# Altium footprint library Vicor_MaxiMiniMicro_DCDC.PcbLib: 3 footprints
Each footprint in its own frame and in the unit in brackets; x right, y up, seen from the top. Pads: shape width x height; smd on the part's side, far side on the other; paste and mask are expansions set on the pad; w line width, h text height; cw(c..) or ccw(c..) is an arc to the next point about the centre after c.
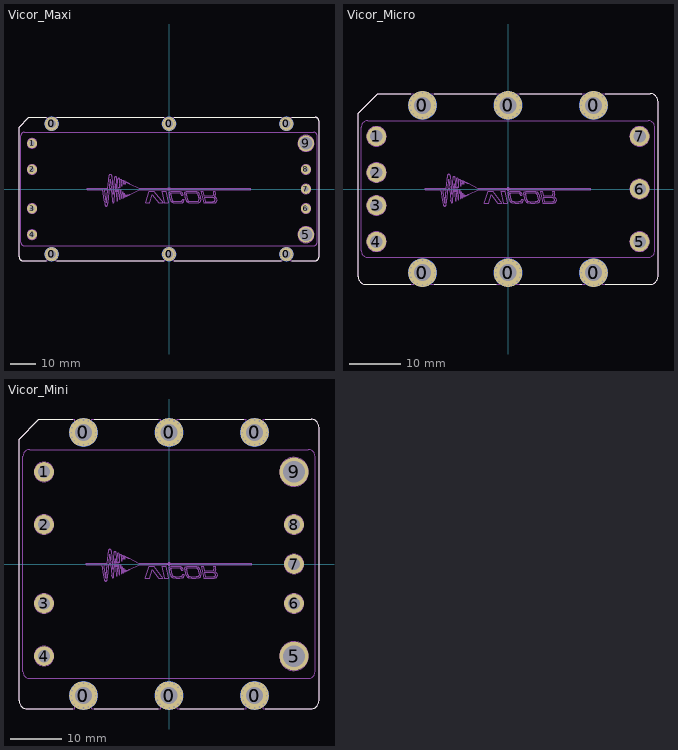
[diagram p0: the footprints below, top view; thin cyan lines are the x and y axes]

## Vicor_Maxi [mm]
pads (27):
  round 0 hole 3.3 unplated: 0(-45.72,-25.4) 0(-45.72,25.4) 0(0,-25.4) 0(0,25.4) 0(45.72,-25.4) 0(45.72,25.4)
  round 5.5 smd: 0(-45.72,-25.4) 0(-45.72,25.4) 0(0,-25.4) 0(0,25.4) 0(45.72,-25.4) 0(45.72,25.4)
  round 5.5 smd far side: 0(-45.72,-25.4) 0(-45.72,25.4) 0(0,-25.4) 0(0,25.4) 0(45.72,-25.4) 0(45.72,25.4)
  round 3.81 hole 2.083: 1(-53.34,17.78) 2(-53.34,7.62) 3(-53.34,-7.62) 4(-53.34,-17.78) 6(53.34,-7.62) 7(53.34,0) 8(53.34,7.62)
  round 6.35 hole 4.928: 5(53.34,-17.78) 9(53.34,17.78)
via 47.455,-23.75 diameter 0.7 hole 0.3
via 43.505,-24.475 diameter 0.7 hole 0.3
via 43.505,-26.325 diameter 0.7 hole 0.3
via 44.705,-27.575 diameter 0.7 hole 0.3
via 46.68,-27.6 diameter 0.7 hole 0.3
via 47.955,-26.275 diameter 0.7 hole 0.3
via 48.105,-25.425 diameter 0.7 hole 0.3
via 47.955,-24.525 diameter 0.7 hole 0.3
via 46.68,-23.2 diameter 0.7 hole 0.3
via 44.83,-23.175 diameter 0.7 hole 0.3
via 45.73,-23 diameter 0.7 hole 0.3
via 43.33,-25.425 diameter 0.7 hole 0.3
via 45.73,-27.8 diameter 0.7 hole 0.3
via 44.005,-23.725 diameter 0.7 hole 0.3
via 43.98,-27.05 diameter 0.7 hole 0.3
via 47.455,-27.05 diameter 0.7 hole 0.3
via 1.735,-23.75 diameter 0.7 hole 0.3
via -2.215,-24.475 diameter 0.7 hole 0.3
via -2.215,-26.325 diameter 0.7 hole 0.3
via -1.015,-27.575 diameter 0.7 hole 0.3
via 0.96,-27.6 diameter 0.7 hole 0.3
via 2.235,-26.275 diameter 0.7 hole 0.3
via 2.385,-25.425 diameter 0.7 hole 0.3
via 2.235,-24.525 diameter 0.7 hole 0.3
via 0.96,-23.2 diameter 0.7 hole 0.3
via -0.89,-23.175 diameter 0.7 hole 0.3
via 0.01,-23 diameter 0.7 hole 0.3
via -2.39,-25.425 diameter 0.7 hole 0.3
via 0.01,-27.8 diameter 0.7 hole 0.3
via -1.715,-23.725 diameter 0.7 hole 0.3
via -1.74,-27.05 diameter 0.7 hole 0.3
via 1.735,-27.05 diameter 0.7 hole 0.3
via -43.985,-23.75 diameter 0.7 hole 0.3
via -47.935,-24.475 diameter 0.7 hole 0.3
via -47.935,-26.325 diameter 0.7 hole 0.3
via -46.735,-27.575 diameter 0.7 hole 0.3
via -44.76,-27.6 diameter 0.7 hole 0.3
via -43.485,-26.275 diameter 0.7 hole 0.3
via -43.335,-25.425 diameter 0.7 hole 0.3
via -43.485,-24.525 diameter 0.7 hole 0.3
via -44.76,-23.2 diameter 0.7 hole 0.3
via -46.61,-23.175 diameter 0.7 hole 0.3
via -45.71,-23 diameter 0.7 hole 0.3
via -48.11,-25.425 diameter 0.7 hole 0.3
via -45.71,-27.8 diameter 0.7 hole 0.3
via -47.435,-23.725 diameter 0.7 hole 0.3
via -47.46,-27.05 diameter 0.7 hole 0.3
via -43.985,-27.05 diameter 0.7 hole 0.3
via 47.455,27.05 diameter 0.7 hole 0.3
via 43.505,26.325 diameter 0.7 hole 0.3
via 43.505,24.475 diameter 0.7 hole 0.3
via 44.705,23.225 diameter 0.7 hole 0.3
via 46.68,23.2 diameter 0.7 hole 0.3
via 47.955,24.525 diameter 0.7 hole 0.3
via 48.105,25.375 diameter 0.7 hole 0.3
via 47.955,26.275 diameter 0.7 hole 0.3
via 46.68,27.6 diameter 0.7 hole 0.3
via 44.83,27.625 diameter 0.7 hole 0.3
via 45.73,27.8 diameter 0.7 hole 0.3
via 43.33,25.375 diameter 0.7 hole 0.3
via 45.73,23 diameter 0.7 hole 0.3
via 44.005,27.075 diameter 0.7 hole 0.3
via 43.98,23.75 diameter 0.7 hole 0.3
via 47.455,23.75 diameter 0.7 hole 0.3
via 1.735,27.05 diameter 0.7 hole 0.3
via -2.215,26.325 diameter 0.7 hole 0.3
via -2.215,24.475 diameter 0.7 hole 0.3
via -1.015,23.225 diameter 0.7 hole 0.3
via 0.96,23.2 diameter 0.7 hole 0.3
via 2.235,24.525 diameter 0.7 hole 0.3
via 2.385,25.375 diameter 0.7 hole 0.3
via 2.235,26.275 diameter 0.7 hole 0.3
via 0.96,27.6 diameter 0.7 hole 0.3
via -0.89,27.625 diameter 0.7 hole 0.3
via 0.01,27.8 diameter 0.7 hole 0.3
via -2.39,25.375 diameter 0.7 hole 0.3
via 0.01,23 diameter 0.7 hole 0.3
via -1.715,27.075 diameter 0.7 hole 0.3
via -1.74,23.75 diameter 0.7 hole 0.3
via 1.735,23.75 diameter 0.7 hole 0.3
via -43.985,27.05 diameter 0.7 hole 0.3
via -47.935,26.325 diameter 0.7 hole 0.3
via -47.935,24.475 diameter 0.7 hole 0.3
via -46.735,23.225 diameter 0.7 hole 0.3
via -44.76,23.2 diameter 0.7 hole 0.3
via -43.485,24.525 diameter 0.7 hole 0.3
via -43.335,25.375 diameter 0.7 hole 0.3
via -43.485,26.275 diameter 0.7 hole 0.3
via -44.76,27.6 diameter 0.7 hole 0.3
via -46.61,27.625 diameter 0.7 hole 0.3
via -45.71,27.8 diameter 0.7 hole 0.3
via -48.11,25.375 diameter 0.7 hole 0.3
via -45.71,23 diameter 0.7 hole 0.3
via -47.435,27.075 diameter 0.7 hole 0.3
via -47.46,23.75 diameter 0.7 hole 0.3
via -43.985,23.75 diameter 0.7 hole 0.3
Top Overlay:
  lines w0.2: -47.775,-27.94 -56.896,-27.94 cw(c-56.896,-26.416) -58.42,-26.416 -58.42,24.13 -54.61,27.94 -47.775,27.94 ; -43.675,-27.94 -2.05,-27.95 ; -43.675,27.95 -2.05,27.95 ; 2.05,-27.95 43.675,-27.95 ; 2.05,27.95 43.675,27.95 ; 47.775,-27.94 56.896,-27.94 ccw(c56.896,-26.416) 58.42,-26.416 58.42,26.416 ccw(c56.896,26.416) 56.896,27.94 47.775,27.94
Mechanical 1:
  drawing of 1242 lines, arcs and shapes, not listed
Mechanical 2:
  circle w0.025: c53.34,7.62 r1.905
  circle w0.025: c53.34,0 r1.905
  circle w0.025: c53.34,-7.62 r1.905
  circle w0.025: c53.34,17.78 r3.175
  circle w0.025: c53.34,-17.78 r3.175
  circle w0.025: c53.34,7.62 r1.194
  circle w0.025: c53.34,0 r1.194
  circle w0.025: c53.34,-7.62 r1.194
  circle w0.025: c53.34,17.78 r2.464
  circle w0.025: c53.34,-17.78 r2.464
  circle w0.025: c53.34,-7.62 r1.016
  circle w0.025: c53.34,0 r1.016
  circle w0.025: c53.34,7.62 r1.016
  circle w0.025: c53.34,-17.78 r2.286
  circle w0.025: c53.34,17.78 r2.286
  circle w0.025: c-53.34,17.78 r1.905
  circle w0.025: c-53.34,7.62 r1.905
  circle w0.025: c-53.34,-7.62 r1.905
  circle w0.025: c-53.34,-17.78 r1.905
  circle w0.025: c-53.34,17.78 r1.194
  circle w0.025: c-53.34,7.62 r1.194
  circle w0.025: c-53.34,-7.62 r1.194
  circle w0.025: c-53.34,-17.78 r1.194
  circle w0.025: c-53.34,-17.78 r1.016
  circle w0.025: c-53.34,-7.62 r1.016
  circle w0.025: c-53.34,7.62 r1.016
  circle w0.025: c-53.34,17.78 r1.016
Drill Drawing:
  circle w0.076: c53.34,-17.78 r2.464
  circle w0.076: c53.34,17.78 r2.464
  circle w0.076: c53.34,-7.62 r1.194
  circle w0.076: c53.34,0 r1.194
  circle w0.076: c53.34,7.62 r1.194
  circle w0.076: c-53.34,-17.78 r1.194
  circle w0.076: c-53.34,-7.62 r1.194
  circle w0.076: c-53.34,7.62 r1.194
  circle w0.076: c-53.34,17.78 r1.194
3D body "37205r1-VxxAxxxxxxBP.STP": height 12.5, standoff -1.27, extent -58.42,-28.067 58.42,27.813

## Vicor_Micro [mm]
pads (25):
  round 0 hole 3.3 unplated: 0(-16.51,-16.15) 0(-16.51,16.15) 0(0,-16.15) 0(0,16.15) 0(16.51,-16.15) 0(16.51,16.15)
  round 5.5 smd: 0(-16.51,-16.15) 0(-16.51,16.15) 0(0,-16.15) 0(0,16.15) 0(16.51,-16.15) 0(16.51,16.15)
  round 5.5 smd far side: 0(-16.51,-16.15) 0(-16.51,16.15) 0(0,-16.15) 0(0,16.15) 0(16.51,-16.15) 0(16.51,16.15)
  round 3.81 hole 2.388: 1(-25.4,10.16) 2(-25.4,3.175) 3(-25.4,-3.175) 4(-25.4,-10.16) 5(25.4,-10.16) 6(25.4,0) 7(25.4,10.16)
via -14.775,17.8 diameter 0.7 hole 0.3
via -18.725,17.075 diameter 0.7 hole 0.3
via -18.725,15.225 diameter 0.7 hole 0.3
via -17.525,13.975 diameter 0.7 hole 0.3
via -15.55,13.95 diameter 0.7 hole 0.3
via -14.275,15.275 diameter 0.7 hole 0.3
via -14.125,16.125 diameter 0.7 hole 0.3
via -14.275,17.025 diameter 0.7 hole 0.3
via -15.55,18.35 diameter 0.7 hole 0.3
via -17.4,18.375 diameter 0.7 hole 0.3
via -16.5,18.55 diameter 0.7 hole 0.3
via -18.9,16.125 diameter 0.7 hole 0.3
via -16.5,13.75 diameter 0.7 hole 0.3
via -18.225,17.825 diameter 0.7 hole 0.3
via -18.25,14.5 diameter 0.7 hole 0.3
via -14.775,14.5 diameter 0.7 hole 0.3
via 1.735,14.5 diameter 0.7 hole 0.3
via -1.74,14.5 diameter 0.7 hole 0.3
via -1.715,17.825 diameter 0.7 hole 0.3
via 0.01,13.75 diameter 0.7 hole 0.3
via -2.39,16.125 diameter 0.7 hole 0.3
via 0.01,18.55 diameter 0.7 hole 0.3
via -0.89,18.375 diameter 0.7 hole 0.3
via 0.96,18.35 diameter 0.7 hole 0.3
via 2.235,17.025 diameter 0.7 hole 0.3
via 2.385,16.125 diameter 0.7 hole 0.3
via 2.235,15.275 diameter 0.7 hole 0.3
via 0.96,13.95 diameter 0.7 hole 0.3
via -1.015,13.975 diameter 0.7 hole 0.3
via -2.215,15.225 diameter 0.7 hole 0.3
via -2.215,17.075 diameter 0.7 hole 0.3
via 1.735,17.8 diameter 0.7 hole 0.3
via 18.245,14.5 diameter 0.7 hole 0.3
via 14.77,14.5 diameter 0.7 hole 0.3
via 14.795,17.825 diameter 0.7 hole 0.3
via 16.52,13.75 diameter 0.7 hole 0.3
via 14.12,16.125 diameter 0.7 hole 0.3
via 16.52,18.55 diameter 0.7 hole 0.3
via 15.62,18.375 diameter 0.7 hole 0.3
via 17.47,18.35 diameter 0.7 hole 0.3
via 18.745,17.025 diameter 0.7 hole 0.3
via 18.895,16.125 diameter 0.7 hole 0.3
via 18.745,15.275 diameter 0.7 hole 0.3
via 17.47,13.95 diameter 0.7 hole 0.3
via 15.495,13.975 diameter 0.7 hole 0.3
via 14.295,15.225 diameter 0.7 hole 0.3
via 14.295,17.075 diameter 0.7 hole 0.3
via 18.245,17.8 diameter 0.7 hole 0.3
via -14.775,-17.8 diameter 0.7 hole 0.3
via -18.25,-17.8 diameter 0.7 hole 0.3
via -18.225,-14.475 diameter 0.7 hole 0.3
via -16.5,-18.55 diameter 0.7 hole 0.3
via -18.9,-16.175 diameter 0.7 hole 0.3
via -16.5,-13.75 diameter 0.7 hole 0.3
via -17.4,-13.925 diameter 0.7 hole 0.3
via -15.55,-13.95 diameter 0.7 hole 0.3
via -14.275,-15.275 diameter 0.7 hole 0.3
via -14.125,-16.175 diameter 0.7 hole 0.3
via -14.275,-17.025 diameter 0.7 hole 0.3
via -15.55,-18.35 diameter 0.7 hole 0.3
via -17.525,-18.325 diameter 0.7 hole 0.3
via -18.725,-17.075 diameter 0.7 hole 0.3
via -18.725,-15.225 diameter 0.7 hole 0.3
via -14.775,-14.5 diameter 0.7 hole 0.3
via 1.735,-17.8 diameter 0.7 hole 0.3
via -1.74,-17.8 diameter 0.7 hole 0.3
via -1.715,-14.475 diameter 0.7 hole 0.3
via 0.01,-18.55 diameter 0.7 hole 0.3
via -2.39,-16.175 diameter 0.7 hole 0.3
via 0.01,-13.75 diameter 0.7 hole 0.3
via -0.89,-13.925 diameter 0.7 hole 0.3
via 0.96,-13.95 diameter 0.7 hole 0.3
via 2.235,-15.275 diameter 0.7 hole 0.3
via 2.385,-16.175 diameter 0.7 hole 0.3
via 2.235,-17.025 diameter 0.7 hole 0.3
via 0.96,-18.35 diameter 0.7 hole 0.3
via -1.015,-18.325 diameter 0.7 hole 0.3
via -2.215,-17.075 diameter 0.7 hole 0.3
via -2.215,-15.225 diameter 0.7 hole 0.3
via 1.735,-14.5 diameter 0.7 hole 0.3
via 18.245,-17.8 diameter 0.7 hole 0.3
via 14.77,-17.8 diameter 0.7 hole 0.3
via 14.795,-14.475 diameter 0.7 hole 0.3
via 16.52,-18.55 diameter 0.7 hole 0.3
via 14.12,-16.175 diameter 0.7 hole 0.3
via 16.52,-13.75 diameter 0.7 hole 0.3
via 15.62,-13.925 diameter 0.7 hole 0.3
via 17.47,-13.95 diameter 0.7 hole 0.3
via 18.745,-15.275 diameter 0.7 hole 0.3
via 18.895,-16.175 diameter 0.7 hole 0.3
via 18.745,-17.025 diameter 0.7 hole 0.3
via 17.47,-18.35 diameter 0.7 hole 0.3
via 15.495,-18.325 diameter 0.7 hole 0.3
via 14.295,-17.075 diameter 0.7 hole 0.3
via 14.295,-15.225 diameter 0.7 hole 0.3
via 18.245,-14.5 diameter 0.7 hole 0.3
Top Overlay:
  lines w0.2: -18.75,-18.415 -27.432,-18.415 cw(c-27.432,-16.891) -28.956,-16.891 -28.956,14.605 -25.146,18.415 -18.75,18.415 ; -14.25,-18.4 -2.275,-18.4 ; -14.25,18.4 -2.275,18.4 ; 2.275,-18.4 14.25,-18.4 ; 2.275,18.4 14.25,18.4 ; 18.75,-18.415 27.432,-18.415 ccw(c27.432,-16.891) 28.956,-16.891 28.956,16.891 ccw(c27.432,16.891) 27.432,18.415 18.75,18.415
Mechanical 1:
  drawing of 1232 lines, arcs and shapes, not listed
Mechanical 2:
  circle w0.076: c-25.4,-10.16 r1.194
  circle w0.076: c-25.4,-3.175 r1.194
  circle w0.076: c-25.4,3.175 r1.194
  circle w0.076: c-25.4,10.16 r1.194
  circle w0.076: c-25.4,10.16 r1.905
  circle w0.076: c-25.4,3.175 r1.905
  circle w0.076: c-25.4,-3.175 r1.905
  circle w0.076: c-25.4,-10.16 r1.905
  circle w0.076: c-25.4,-3.175 r1.016
  circle w0.076: c-25.4,-10.16 r1.016
  circle w0.076: c-25.4,3.175 r1.016
  circle w0.076: c-25.4,10.16 r1.016
  circle w0.076: c25.4,-10.16 r1.194
  circle w0.076: c25.4,0 r1.194
  circle w0.076: c25.4,10.16 r1.194
  circle w0.076: c25.4,-10.16 r1.905
  circle w0.076: c25.4,0 r1.905
  circle w0.076: c25.4,10.16 r1.905
  circle w0.076: c25.4,-10.16 r1.016
  circle w0.076: c25.4,0 r1.016
  circle w0.076: c25.4,10.16 r1.016
Drill Drawing:
  circle w0.025: c25.4,10.16 r1.194
  circle w0.025: c25.4,0 r1.194
  circle w0.025: c25.4,-10.16 r1.194
  circle w0.025: c-25.4,10.16 r1.194
  circle w0.025: c-25.4,3.175 r1.194
  circle w0.025: c-25.4,-3.175 r1.194
  circle w0.025: c-25.4,-10.16 r1.194
3D body "37207r1-VxxCxxxxxxBP.STP": height 12.7, standoff -1.31, extent -28.829,-18.415 29.083,18.415

## Vicor_Mini [mm]
pads (27):
  round 0 hole 3.3 unplated: 0(-16.51,-25.4) 0(-16.51,25.4) 0(0,-25.4) 0(0,25.4) 0(16.51,-25.4) 0(16.51,25.4)
  round 5.5 smd: 0(-16.51,-25.4) 0(-16.51,25.4) 0(0,-25.4) 0(0,25.4) 0(16.51,-25.4) 0(16.51,25.4)
  round 5.5 smd far side: 0(-16.51,-25.4) 0(-16.51,25.4) 0(0,-25.4) 0(0,25.4) 0(16.51,-25.4) 0(16.51,25.4)
  round 3.81 hole 2.388: 1(-24.13,17.78) 2(-24.13,7.62) 3(-24.13,-7.62) 4(-24.13,-17.78) 6(24.13,-7.62) 7(24.13,0) 8(24.13,7.62)
  round 5.588 hole 4.166: 5(24.13,-17.78) 9(24.13,17.78)
via 18.245,-23.75 diameter 0.7 hole 0.3
via 14.295,-24.475 diameter 0.7 hole 0.3
via 14.295,-26.325 diameter 0.7 hole 0.3
via 15.495,-27.575 diameter 0.7 hole 0.3
via 17.47,-27.6 diameter 0.7 hole 0.3
via 18.745,-26.275 diameter 0.7 hole 0.3
via 18.895,-25.425 diameter 0.7 hole 0.3
via 18.745,-24.525 diameter 0.7 hole 0.3
via 17.47,-23.2 diameter 0.7 hole 0.3
via 15.62,-23.175 diameter 0.7 hole 0.3
via 16.52,-23 diameter 0.7 hole 0.3
via 14.12,-25.425 diameter 0.7 hole 0.3
via 16.52,-27.8 diameter 0.7 hole 0.3
via 14.795,-23.725 diameter 0.7 hole 0.3
via 14.77,-27.05 diameter 0.7 hole 0.3
via 18.245,-27.05 diameter 0.7 hole 0.3
via 1.735,-23.75 diameter 0.7 hole 0.3
via -2.215,-24.475 diameter 0.7 hole 0.3
via -2.215,-26.325 diameter 0.7 hole 0.3
via -1.015,-27.575 diameter 0.7 hole 0.3
via 0.96,-27.6 diameter 0.7 hole 0.3
via 2.235,-26.275 diameter 0.7 hole 0.3
via 2.385,-25.425 diameter 0.7 hole 0.3
via 2.235,-24.525 diameter 0.7 hole 0.3
via 0.96,-23.2 diameter 0.7 hole 0.3
via -0.89,-23.175 diameter 0.7 hole 0.3
via 0.01,-23 diameter 0.7 hole 0.3
via -2.39,-25.425 diameter 0.7 hole 0.3
via 0.01,-27.8 diameter 0.7 hole 0.3
via -1.715,-23.725 diameter 0.7 hole 0.3
via -1.74,-27.05 diameter 0.7 hole 0.3
via 1.735,-27.05 diameter 0.7 hole 0.3
via -14.775,-23.75 diameter 0.7 hole 0.3
via -18.725,-24.475 diameter 0.7 hole 0.3
via -18.725,-26.325 diameter 0.7 hole 0.3
via -17.525,-27.575 diameter 0.7 hole 0.3
via -15.55,-27.6 diameter 0.7 hole 0.3
via -14.275,-26.275 diameter 0.7 hole 0.3
via -14.125,-25.425 diameter 0.7 hole 0.3
via -14.275,-24.525 diameter 0.7 hole 0.3
via -15.55,-23.2 diameter 0.7 hole 0.3
via -17.4,-23.175 diameter 0.7 hole 0.3
via -16.5,-23 diameter 0.7 hole 0.3
via -18.9,-25.425 diameter 0.7 hole 0.3
via -16.5,-27.8 diameter 0.7 hole 0.3
via -18.225,-23.725 diameter 0.7 hole 0.3
via -18.25,-27.05 diameter 0.7 hole 0.3
via -14.775,-27.05 diameter 0.7 hole 0.3
via 18.245,27.05 diameter 0.7 hole 0.3
via 14.295,26.325 diameter 0.7 hole 0.3
via 14.295,24.475 diameter 0.7 hole 0.3
via 15.495,23.225 diameter 0.7 hole 0.3
via 17.47,23.2 diameter 0.7 hole 0.3
via 18.745,24.525 diameter 0.7 hole 0.3
via 18.895,25.375 diameter 0.7 hole 0.3
via 18.745,26.275 diameter 0.7 hole 0.3
via 17.47,27.6 diameter 0.7 hole 0.3
via 15.62,27.625 diameter 0.7 hole 0.3
via 16.52,27.8 diameter 0.7 hole 0.3
via 14.12,25.375 diameter 0.7 hole 0.3
via 16.52,23 diameter 0.7 hole 0.3
via 14.795,27.075 diameter 0.7 hole 0.3
via 14.77,23.75 diameter 0.7 hole 0.3
via 18.245,23.75 diameter 0.7 hole 0.3
via 1.735,27.05 diameter 0.7 hole 0.3
via -2.215,26.325 diameter 0.7 hole 0.3
via -2.215,24.475 diameter 0.7 hole 0.3
via -1.015,23.225 diameter 0.7 hole 0.3
via 0.96,23.2 diameter 0.7 hole 0.3
via 2.235,24.525 diameter 0.7 hole 0.3
via 2.385,25.375 diameter 0.7 hole 0.3
via 2.235,26.275 diameter 0.7 hole 0.3
via 0.96,27.6 diameter 0.7 hole 0.3
via -0.89,27.625 diameter 0.7 hole 0.3
via 0.01,27.8 diameter 0.7 hole 0.3
via -2.39,25.375 diameter 0.7 hole 0.3
via 0.01,23 diameter 0.7 hole 0.3
via -1.715,27.075 diameter 0.7 hole 0.3
via -1.74,23.75 diameter 0.7 hole 0.3
via 1.735,23.75 diameter 0.7 hole 0.3
via -14.775,27.05 diameter 0.7 hole 0.3
via -18.725,26.325 diameter 0.7 hole 0.3
via -18.725,24.475 diameter 0.7 hole 0.3
via -17.525,23.225 diameter 0.7 hole 0.3
via -15.55,23.2 diameter 0.7 hole 0.3
via -14.275,24.525 diameter 0.7 hole 0.3
via -14.125,25.375 diameter 0.7 hole 0.3
via -14.275,26.275 diameter 0.7 hole 0.3
via -15.55,27.6 diameter 0.7 hole 0.3
via -17.4,27.625 diameter 0.7 hole 0.3
via -16.5,27.8 diameter 0.7 hole 0.3
via -18.9,25.375 diameter 0.7 hole 0.3
via -16.5,23 diameter 0.7 hole 0.3
via -18.225,27.075 diameter 0.7 hole 0.3
via -18.25,23.75 diameter 0.7 hole 0.3
via -14.775,23.75 diameter 0.7 hole 0.3
Top Overlay:
  lines w0.2: -18.575,-27.94 -27.432,-27.94 cw(c-27.432,-26.416) -28.956,-26.416 -28.956,24.13 -25.146,27.94 -18.55,27.94 ; -14.45,-27.925 -2.05,-27.925 ; -14.45,27.925 -2.05,27.925 ; 2.05,-27.925 14.45,-27.925 ; 2.05,27.925 14.45,27.925 ; 18.55,27.94 27.432,27.94 cw(c27.432,26.416) 28.956,26.416 28.956,-26.416 cw(c27.432,-26.416) 27.432,-27.94 18.575,-27.94
Mechanical 1:
  drawing of 1242 lines, arcs and shapes, not listed
Mechanical 2:
  circle w0.076: c-24.13,17.78 r1.016
  circle w0.076: c-24.13,7.62 r1.016
  circle w0.076: c-24.13,-7.62 r1.016
  circle w0.076: c-24.13,-17.78 r1.016
  circle w0.076: c-24.13,-17.78 r1.194
  circle w0.076: c-24.13,-7.62 r1.194
  circle w0.076: c-24.13,7.62 r1.194
  circle w0.076: c-24.13,17.78 r1.194
  circle w0.076: c-24.13,-17.78 r1.905
  circle w0.076: c-24.13,-7.62 r1.905
  circle w0.076: c-24.13,7.62 r1.905
  circle w0.076: c-24.13,17.78 r1.905
  circle w0.076: c24.13,-17.78 r1.905
  circle w0.076: c24.13,17.78 r1.905
  circle w0.076: c24.13,17.78 r2.083
  circle w0.076: c24.13,-17.78 r2.083
  circle w0.076: c24.13,17.78 r2.794
  circle w0.076: c24.13,-17.78 r2.794
  circle w0.076: c24.13,-7.62 r1.905
  circle w0.076: c24.13,0 r1.905
  circle w0.076: c24.13,7.62 r1.905
  circle w0.076: c24.13,7.62 r1.016
  circle w0.076: c24.13,0 r1.016
  circle w0.076: c24.13,-7.62 r1.016
  circle w0.076: c24.13,-7.62 r1.194
  circle w0.076: c24.13,0 r1.194
  circle w0.076: c24.13,7.62 r1.194
Drill Drawing:
  circle w0.076: c24.13,7.62 r1.194
  circle w0.076: c24.13,0 r1.194
  circle w0.076: c24.13,-7.62 r1.194
  circle w0.076: c24.13,-17.78 r2.083
  circle w0.076: c24.13,17.78 r2.083
  circle w0.076: c-24.13,17.78 r1.194
  circle w0.076: c-24.13,7.62 r1.194
  circle w0.076: c-24.13,-7.62 r1.194
  circle w0.076: c-24.13,-17.78 r1.194
3D body "37206r1-VxxBxxxxxxBP.STP": height 12.71, standoff -1.32, extent -29.083,-28.024 29.003,28.024